# Altium footprint library ABS2532768KHZT.PcbLib: 1 footprints
Each footprint in its own frame and in the unit in brackets; x right, y up, seen from the top. Pads: shape width x height; smd on the part's side, far side on the other; paste and mask are expansions set on the pad; w line width, h text height; cw(c..) or ccw(c..) is an arc to the next point about the centre after c.
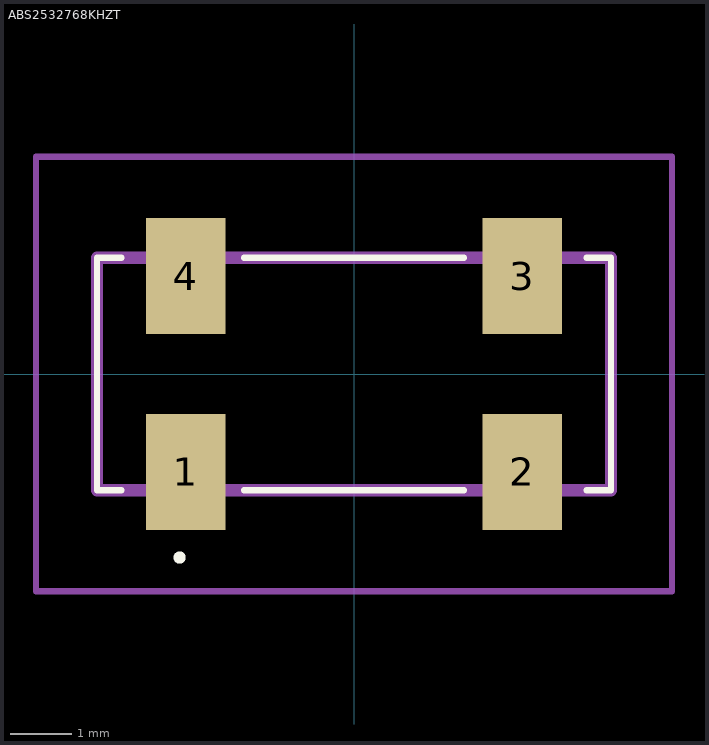
[diagram p0: the footprint, top view; thin cyan lines are the x and y axes]

## ABS2532768KHZT [mm]
pads (4):
  rect 1.3x1.9 smd: 1(-2.75,-1.6) 2(2.75,-1.6) 3(2.75,1.6) 4(-2.75,1.6)
Top Overlay:
  lines w0.1: -3.8,-1.9 -4.2,-1.9 -4.2,1.9 -3.8,1.9 ; -1.8,-1.9 1.8,-1.9 ; -1.8,1.9 1.8,1.9 ; 3.8,-1.9 4,-1.9 4.2,-1.9 4.2,1.9 3.8,1.9 ; -2.9,-3 cw(c-2.85,-3) -2.8,-3 ; -2.9,-3 -2.9,-3 ; -2.9,-3 ccw(c-2.85,-3) -2.8,-3 ; -2.8,-3 -2.8,-3
Mechanical 15:
  lines w0.2: -4.2,-1.9 4.2,-1.9 4.2,1.9 -4.2,1.9 -4.2,-1.9
Mechanical 20:
  lines w0.1: -5.2,-3.55 5.2,-3.55 5.2,3.55 -5.2,3.55 -5.2,-3.55